# Altium schematic symbol library RC2512JK-7W200RL.SchLib: 1 symbol
Pins are listed as number, name and electrical type; pins without a type are passive.

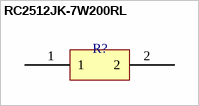
[diagram p0: symbol RC2512JK-7W200RL]

## RC2512JK-7W200RL
designator R?  (value not drawn)
footprint RC2512JK-7W200RL
pins: 1, 2